# EAGLE library part MCP2221A (library Power_Buggy_Parts)
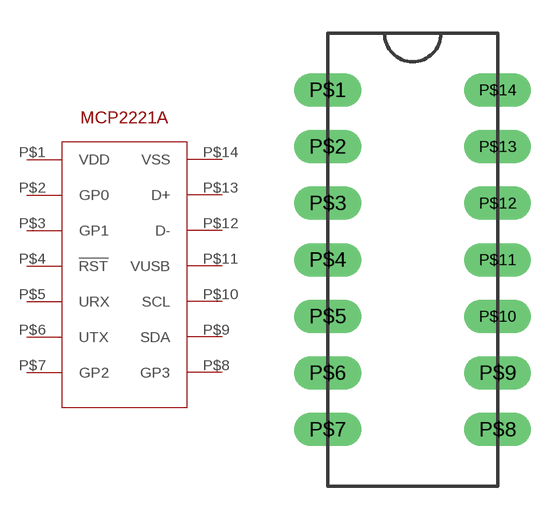
[diagram p0: symbol with the pads of PDIP14; footprint PDIP14]

Designator prefix -

## MCP2221A  [PDIP14]
P$1  VDD
P$2  GP0
P$3  GP1
P$4  !RST
P$5  URX
P$6  UTX
P$7  GP2
P$8  GP3
P$9  SDA
P$10  SCL
P$11  VUSB
P$12  D-
P$13  D+
P$14  VSS

## Footprint PDIP14 (pad centres in mm)
drill 1 long: P$1 0,0; P$2 0,-2.54; P$3 0,-5.08; P$4 0,-7.62; P$5 0,-10.16; P$6 0,-12.7; P$7 0,-15.24; P$8 7.62,-15.24; P$9 7.62,-12.7; P$10 7.62,-10.16; P$11 7.62,-7.62; P$12 7.62,-5.08; P$13 7.62,-2.54; P$14 7.62,0